# Altium schematic symbol library hirose-df9.SchLib: 1 symbol
Pins are listed as number, name and electrical type; pins without a type are passive.

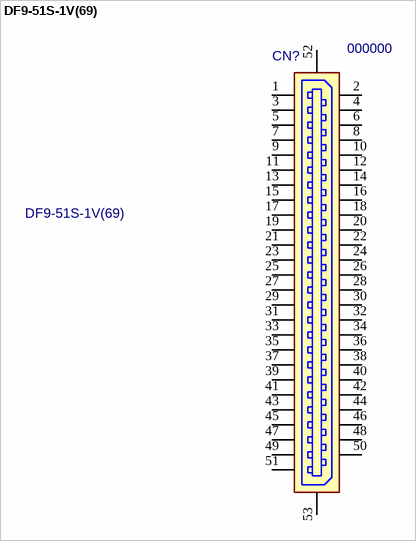
[diagram p0: symbol DF9-51S-1V(69)]

## DF9-51S-1V(69)
designator CN?, comment 000000  value DF9-51S-1V(69)
51pos, 1.0mm Board to Board Connector, Male, SMT, Vertical; MF: Hirose; PN: 000000; Package: SMT; ExtraInfo: *; MF PN: DF9-51S-1V(69); Digi-Key PN: H10408CT-ND; Price: 1.50800
footprint DF9-51S-1V(69) (1.0mm Pitch SMT Board to Board Connector, 51 Positions, Metal Fitting)
pins: 1, 2, 3, 4, 5, 6, 7, 8, 9, 10, 11, 12, 13, 14, 15, 16, 17, 18, 19, 20, 21, 22, 23, 24, 25, 26, 27, 28, 29, 30, 31, 32, 33, 34, 35, 36, 37, 38, 39, 40, 41, 42, 43, 44, 45, 46, 47, 48, 49, 50, 51, 52 TAB, 53 TAB